# Altium schematic symbol library RP235xB.SchLib: 1 symbol
Pins are listed as number, name and electrical type; pins without a type are passive.

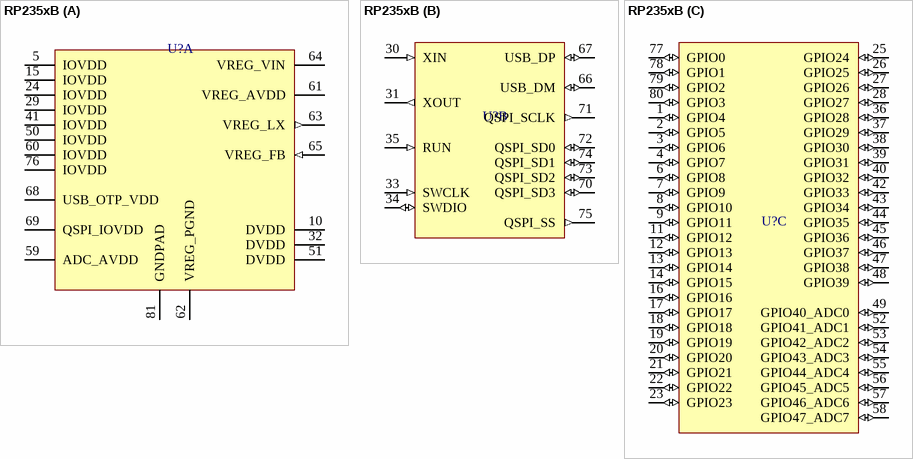
[diagram p0: symbol RP235xB]

## RP235xB
designator U?  (value not drawn)
part A pins: 5 IOVDD (power), 10 DVDD (power), 15 IOVDD (power), 24 IOVDD (power), 29 IOVDD (power), 32 DVDD (power), 41 IOVDD (power), 50 IOVDD (power), 51 DVDD (power), 59 ADC_AVDD (power), 60 IOVDD (power), 61 VREG_AVDD (power), 62 VREG_PGND (power), 63 VREG_LX (out), 64 VREG_VIN (power), 65 VREG_FB (in), 68 USB_OTP_VDD (power), 69 QSPI_IOVDD (power), 76 IOVDD (power), 81 GNDPAD (power)
part B pins: 30 XIN (in), 31 XOUT (out), 33 SWCLK (in), 34 SWDIO (io), 35 RUN (in), 66 USB_DM (io), 67 USB_DP (io), 70 QSPI_SD3 (io), 71 QSPI_SCLK (out), 72 QSPI_SD0 (io), 73 QSPI_SD2 (io), 74 QSPI_SD1 (io), 75 QSPI_SS (out)
part C pins: 1 GPIO4 (io), 2 GPIO5 (io), 3 GPIO6 (io), 4 GPIO7 (io), 6 GPIO8 (io), 7 GPIO9 (io), 8 GPIO10 (io), 9 GPIO11 (io), 11 GPIO12 (io), 12 GPIO13 (io), 13 GPIO14 (io), 14 GPIO15 (io), 16 GPIO16 (io), 17 GPIO17 (io), 18 GPIO18 (io), 19 GPIO19 (io), 20 GPIO20 (io), 21 GPIO21 (io), 22 GPIO22 (io), 23 GPIO23 (io), 25 GPIO24 (io), 26 GPIO25 (io), 27 GPIO26 (io), 28 GPIO27 (io), 36 GPIO28 (io), 37 GPIO29 (io), 38 GPIO30 (io), 39 GPIO31 (io), 40 GPIO32 (io), 42 GPIO33 (io), 43 GPIO34 (io), 44 GPIO35 (io), 45 GPIO36 (io), 46 GPIO37 (io), 47 GPIO38 (io), 48 GPIO39 (io), 49 GPIO40_ADC0 (io), 52 GPIO41_ADC1 (io), 53 GPIO42_ADC2 (io), 54 GPIO43_ADC3 (io), 55 GPIO44_ADC4 (io), 56 GPIO45_ADC5 (io), 57 GPIO46_ADC6 (io), 58 GPIO47_ADC7 (io), 77 GPIO0 (io), 78 GPIO1 (io), 79 GPIO2 (io), 80 GPIO3 (io)